# Altium footprint library Passive.PcbLib: 235 footprints (part 11 of 15)
Each footprint in its own frame and in the unit in brackets; x right, y up, seen from the top. Pads: shape width x height; smd on the part's side, far side on the other; paste and mask are expansions set on the pad; w line width, h text height; cw(c..) or ccw(c..) is an arc to the next point about the centre after c.
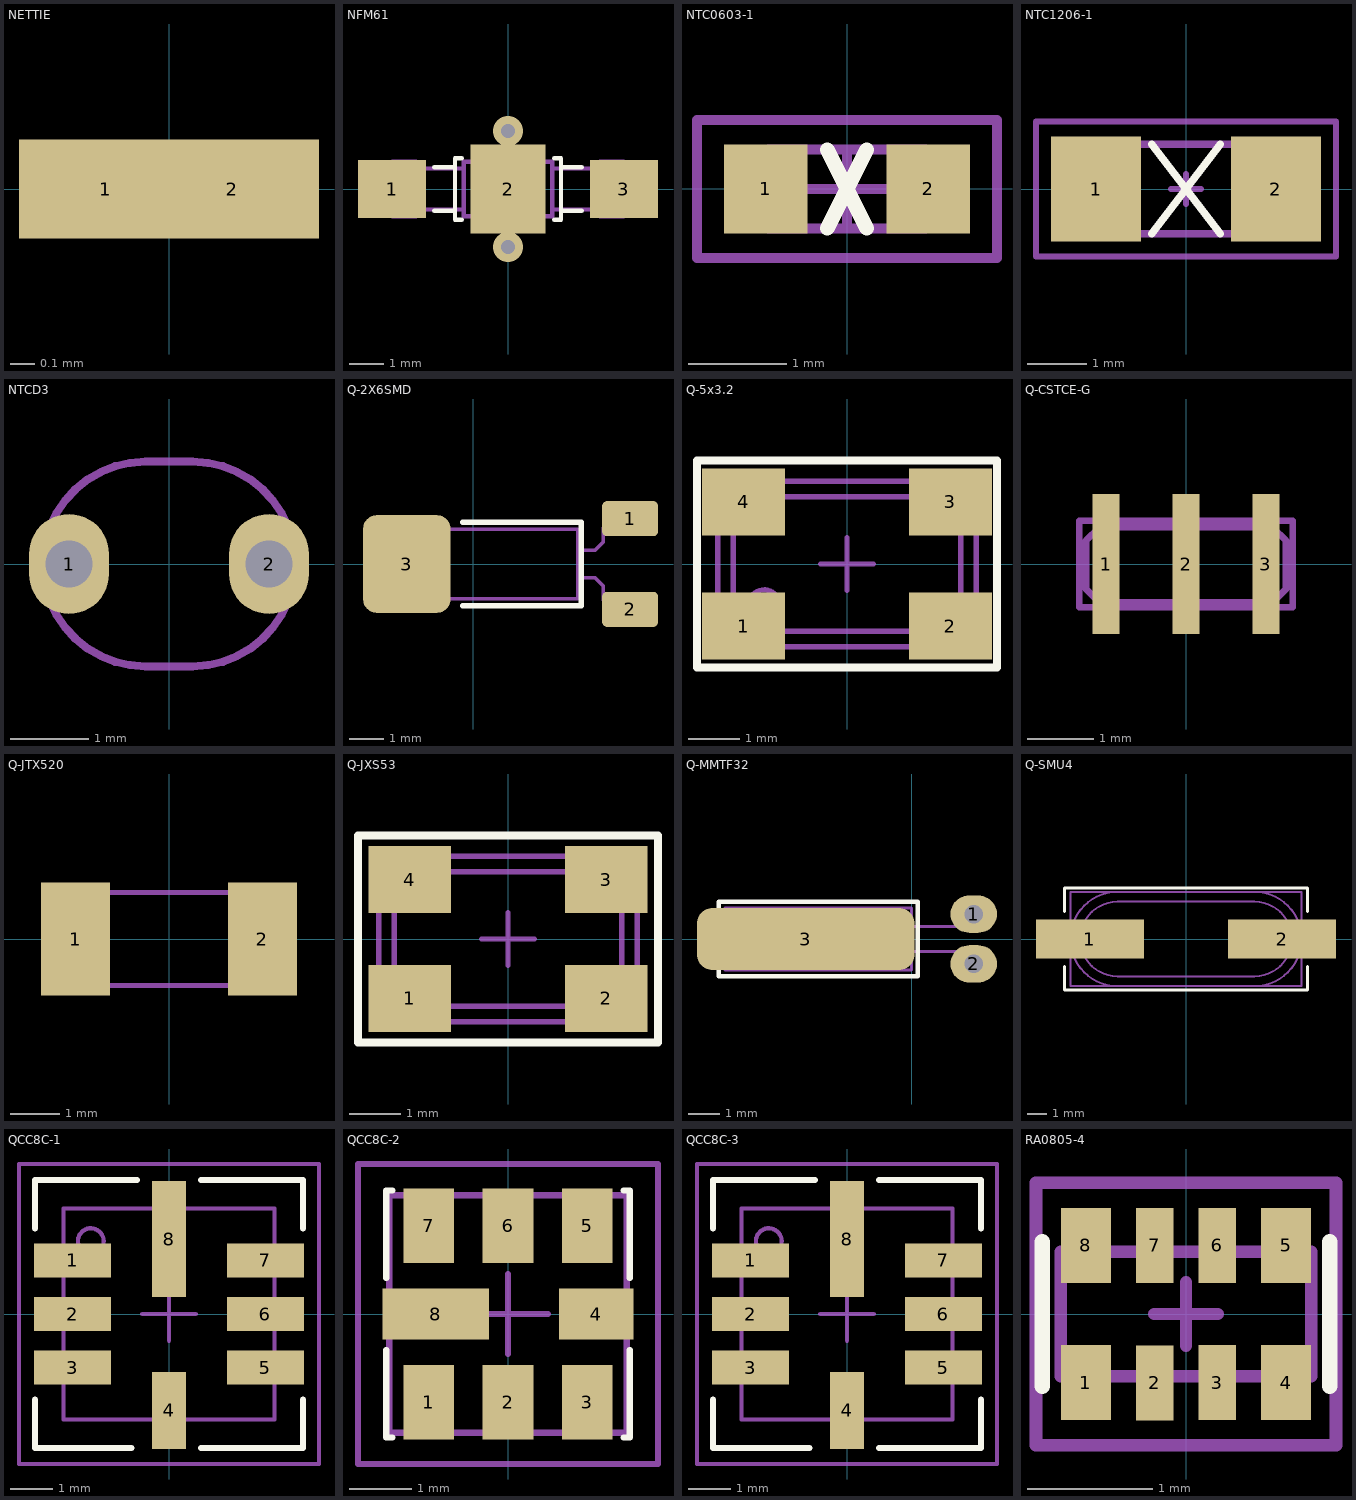
[diagram p10: the footprints below, top view; thin cyan lines are the x and y axes]

## NETTIE [mm] "Net Tie"
pads (2):
  rect 0.7x0.4 smd: 1(-0.254,0) 2(0.254,0)

## NFM61 [mm]
pads (3):
  rect 2x1.7 smd: 1(-3.4,0) 3(3.4,0)
  rect 2.2x2.6 smd: 2(0,0)
via 0,1.7 diameter 0.889 hole 0.4
via 0,-1.7 diameter 0.889 hole 0.4
Top Overlay:
  lines w0.127: -2.159,-0.635 -1.554,-0.635 ; -2.159,0.635 -1.554,0.635 ; -1.354,-0.9 -1.554,-0.9 -1.554,0.9 -1.354,0.9 ; 1.354,-0.9 1.554,-0.9 1.554,0.9 1.354,0.9 ; 1.554,-0.635 2.159,-0.635 ; 1.554,0.635 2.159,0.635
Mechanical 13:
  lines w0.127: -2.7,-0.6 -1.3,-0.6 ; -2.7,0.6 -1.3,0.6 ; 1.3,-0.6 2.7,-0.6 ; 1.3,0.6 2.7,0.6 ; -3.4,-0.8 -3.4,0.8 -2.7,0.8 -2.7,-0.8 -3.4,-0.8 ; -1.3,-0.8 -1.3,0.8 1.3,0.8 1.3,-0.8 -1.3,-0.8 ; 2.7,-0.8 2.7,0.8 3.4,0.8 3.4,-0.8 2.7,-0.8
Mechanical 15:
  lines w0.127: -0.4,0 0.4,0 ; 0,-0.4 0,0.4
3D body: height 1.6, standoff 0, extent -3.4,-0.8 3.4,0.8

## NTC0603-1 [mm] "NTC resistor 0603 0.9mm high"
height 0.9
pads (2):
  rect 0.85x0.9 smd: 1(-0.825,0) 2(0.825,0)
Top Overlay:
  lines w0.15: -0.2,-0.4 0.2,0.4 ; -0.2,0.4 0.2,-0.4
Mechanical 13:
  lines w0.1: -0.8,-0.4 0.8,-0.4 0.8,0.4 -0.8,0.4 -0.8,-0.4
Mechanical 15:
  lines w0.1: -0.4,0 0.4,0 ; 0,-0.4 0,0.4 ; -1.525,-0.7 1.525,-0.7 1.525,0.7 -1.525,0.7 -1.525,-0.7
3D body: height 0.9, standoff 0, extent -0.4,-0.4 0.4,0.4
3D body: height 0.9, standoff 0, extent -0.8,-0.4 -0.4,0.4
3D body: height 0.9, standoff 0, extent 0.4,-0.4 0.8,0.4

## NTC1206-1 [mil] "Chip resistor 1206"
height 61.02
pads (2):
  rect 60x70 smd: 1(-60,0) 2(60,0)
Top Overlay:
  lines w5: -22.99,-30 22.99,30 ; -22.99,30 22.99,-30
Mechanical 13:
  lines w5: -60,-30 60,-30 60,30 -60,30 -60,-30
Mechanical 15:
  lines w3.94: -10,0 10,0 ; 0,-10 0,10 ; -100,-45 100,-45 100,45 -100,45 -100,-45
3D body: height 47.24, standoff 0.39, extent -60,-30 60,30
3D body: height 47.64, standoff 0, extent -39.37,-30.32 39.37,30.32

## NTCD3 [mm] "NTC resistor THT R2.54mm 2.4x3mm h 8mm"
height 8
pads (2):
  oval 1.016x1.27 hole 0.6: 1(-1.27,0) 2(1.27,0)
Mechanical 13:
  lines w0.1: -0.3,-1.3 0.3,-1.3 ; -0.3,1.3 0.3,1.3
  lines w0.102: -0.3,-1.3 cw(c-0.3,0) -0.3,1.3 ; 0.3,-1.3 ccw(c0.3,0) 0.3,1.3
3D body: height 6, standoff 2, extent -1.611,-1.311 1.611,1.311
3D body: height 2, standoff -3, extent -1.479,-0.2 -1.071,0.208
3D body: height 2, standoff -3, extent 1.071,-0.2 1.479,0.208

## Q-2X6SMD [mm] "Quartz D2x6mm SMD"
height 2
pads (3):
  rrect25% 1.6x1 smd: 1(4.5,1.3) 2(4.5,-1.3)
  rrect30% 2.5x2.8 smd: 3(-1.9,0)
Top Overlay:
  lines w0.15: -0.3,-1.2 3.1,-1.2 3.1,1.2 -0.3,1.2
Mechanical 13:
  lines w0.102: 3,-0.4 3.5,-0.4 3.725,-0.625 3.725,-1.025 4,-1.3 5,-1.3 ; 3,0.4 3.5,0.4 3.725,0.625 3.725,1.025 4,1.3 5,1.3 ; -3.1,-1 -3.1,1 3,1 3,-1 -3.1,-1
3D body: height 2.09, standoff 0.1, extent 1.7,-0.998 3,0.998
3D body: height 2.1, standoff 0.1, extent -3.1,-1 1.7,1

## Q-5x3.2 [mm] "Quartz crystal 5x3.2x0.8mm"
height 0.8
pads (4):
  rect 1.6x1.3 smd: 1(-2,-1.2) 2(2,-1.2) 3(2,1.2) 4(-2,1.2)
Top Overlay:
  lines w0.15: -2.9,-2 2.9,-2 2.9,2 -2.9,2 -2.9,-2
Mechanical 13:
  circle w0.102: c-1.6,-0.8 r0.3
  lines w0.102: -2.5,-1.4 -2.5,1.4 -2.3,1.6 2.3,1.6 2.5,1.4 2.5,-1.4 2.3,-1.6 -2.3,-1.6 -2.5,-1.4 ; -2.2,-1.3 -2.2,1.3 2.2,1.3 2.2,-1.3 -2.2,-1.3
Mechanical 15:
  lines w0.102: -0.508,0 0.508,0 ; 0,-0.508 0,0.508
3D body: height 0.4, standoff 0, extent -2.5,-1.6 2.5,1.6
3D body: height 0.8, standoff 0.4, extent -2.2,-1.3 2.2,1.3
3D body: height 0.81, standoff 0.8, extent -2,-1.025 -1.5,-0.525
3D body: height 0.81, standoff 0.8, extent -1.9,-1.1 -1.3,-0.5

## Q-CSTCE-G [mm] "Quartz resonator CSTCE-G 3.2x1.3X0.8mm"
height 0.8
pads (3):
  rect 0.4x2.1 smd: 1(-1.2,0) 2(0,0) 3(1.2,0)
Mechanical 13:
  lines w0.102: -1.6,-0.65 1.6,-0.65 1.6,0.65 -1.6,0.65 -1.6,-0.65 ; -1.5,-0.375 -1.5,0.35 -1.3,0.55 1.3,0.55 1.5,0.35 1.5,-0.375 1.3,-0.575 -1.3,-0.575 -1.5,-0.375
3D body: height 0.3, standoff 0, extent -1.6,-0.65 1.6,0.65
3D body: height 0.8, standoff 0.3, extent -1.5,-0.575 1.5,0.55

## Q-JTX520 [mm] "Quartz crystal JTX520 4.8x1.9x0.8mm"
height 0.8
pads (2):
  rect 1.4x2.3 smd: 1(-1.9,0) 2(1.9,0)
Mechanical 13:
  lines w0.102: -2.4,-0.95 -2.4,0.95 2.2,0.95 2.4,0.75 2.4,-0.95 -2.4,-0.95
3D body: height 0.8, standoff 0, extent -2.4,-0.95 2.4,0.95

## Q-JXS53 [mm] "Quartz crystal 5x3.2x0.8mm"
height 0.8
pads (4):
  rect 1.6x1.3 smd: 1(-1.9,-1.15) 2(1.9,-1.15) 3(1.9,1.15) 4(-1.9,1.15)
Top Overlay:
  lines w0.15: -2.9,-2 2.9,-2 2.9,2 -2.9,2 -2.9,-2
Mechanical 13:
  lines w0.102: -2.5,-1.4 -2.5,1.4 -2.3,1.6 2.3,1.6 2.5,1.4 2.5,-1.4 2.3,-1.6 -2.3,-1.6 -2.5,-1.4 ; -2.2,-1.3 -2.2,1.3 2.2,1.3 2.2,-1.3 -2.2,-1.3
Mechanical 15:
  lines w0.102: -0.508,0 0.508,0 ; 0,-0.508 0,0.508
3D body: height 0.4, standoff 0, extent -2.5,-1.6 2.5,1.6
3D body: height 0.8, standoff 0.4, extent -2.2,-1.3 2.2,1.3
3D body: height 0.81, standoff 0.8, extent -2,-1.025 -1.5,-0.525

## Q-MMTF32 [mm] "Quartz D2x6mm tht"
pads (3):
  oval 1.5x1.2 hole 0.6: 1(2,0.8) 2(2,-0.8)
  rrect50% 7x2 smd paste-200: 3(-3.4,0)
Top Overlay:
  lines w0.15: -6.2,-1.2 -6.2,1.2 0.2,1.2 0.2,-1.2 -6.2,-1.2
Mechanical 13:
  lines w0.102: 0,-0.4 1.6,-0.4 2,-0.8 ; 0,0.4 1.6,0.4 2,0.8 ; -6,-1 -6,1 0,1 0,-1 -6,-1
3D body: height 2.09, standoff 0.1, extent -6,-1 0,0.996
3D body: height 1, standoff -3.2, extent 1.85,0.65 2.15,0.95
3D body: height 1.2, standoff 1, extent 0,0.3 2.15,0.95
3D body: height 1, standoff -3.2, extent 1.85,-0.95 2.15,-0.65
3D body: height 1.2, standoff 1, extent 0,-0.95 2.15,-0.3

## Q-SMU4 [mm] "Quartz crystal 12.5x4.8x4mm"
height 4
pads (2):
  rect 5.5x2 smd: 1(-4.9,0) 2(4.9,0)
Top Overlay:
  lines w0.15: -6.2,-1.4 -6.2,-2.6 6.2,-2.6 6.2,-1.4 ; -6.2,1.4 -6.2,2.6 6.2,2.6 6.2,1.4
Mechanical 13:
  lines w0.1: -3.5,-2.4 cw(c-3.5,0) -3.5,2.4 ; -3.5,-1.9 cw(c-3.5,0) -3.5,1.9 ; 3.5,-2.4 ccw(c3.5,0) 3.5,2.4 ; 3.5,-1.9 ccw(c3.5,0) 3.5,1.9
  lines w0.102: -3.5,-1.9 3.5,-1.9 ; -3.5,1.9 3.5,1.9 ; -5.9,-2.4 5.9,-2.4 5.9,2.4 -5.9,2.4 -5.9,-2.4
3D body: height 1, standoff 0.8, extent -5.9,-2.4 5.9,2.4
3D body: height 4, standoff 0.8, extent -5.4,-1.9 5.4,1.9
3D body: height 0.8, standoff 0, extent -5.9,-2.4 5.9,2.4

## QCC8C-1 [mil] "SAW filter 8 pin R1.27mm"
height 66.93
pads (8):
  rect 72x32 smd: 1(-90,50) 2(-90,0) 3(-90,-50) 5(90,-50) 6(90,0) 7(90,50)
  rect 32x72 smd: 4(0,-90)
  rect 32x108 smd: 8(0,70)
Top Overlay:
  lines w5.91: -125,-80 -125,-125 -35,-125 ; -125,80 -125,125 -30,125 ; 30,-125 125,-125 125,-80 ; 30,125 125,125 125,80
Mechanical 13:
  circle w4: c-73,68 r12
  lines w4: -98.43,-57.87 -98.43,-98.43 -7.87,-98.43 ; -98.43,-42.13 -98.43,-7.87 ; -98.43,7.87 -98.43,43.13 ; -98.43,58.87 -98.43,98.43 -7.87,98.43 ; -98.18,-57.87 ccw(c-98.18,-50) -98.18,-42.13 ; -98.18,-7.87 ccw(c-98.18,0) -98.18,7.87 ; -98.18,43.13 ccw(c-98.18,51) -98.18,58.87 ; -7.87,-98.18 cw(c0,-98.18) 7.87,-98.18 ; -7.87,98.18 ccw(c0,98.18) 7.87,98.18 ; 7.87,-98.43 98.43,-98.43 98.43,-57.87 ; 7.87,98.43 98.43,98.43 98.43,58.87 ; 98.18,-57.87 cw(c98.18,-50) 98.18,-42.13 ; 98.18,-7.87 cw(c98.18,0) 98.18,7.87 ; 98.18,43.13 cw(c98.18,51) 98.18,58.87 ; 98.43,-42.13 98.43,-7.87 ; 98.43,7.87 98.43,43.13
Mechanical 15:
  lines w4: -25,0 25,0 ; 0,-25 0,25 ; -140,-140 140,-140 140,140 -140,140 -140,-105 -140,-140
3D body: height 66.93, standoff 53.15, extent -90.55,-90.55 90.55,90.55
3D body: height 53.15, standoff 0, extent -7.87,-98.43 7.87,-90.4
3D body: height 53.15, standoff 0, extent -98.34,-57.88 -90.31,-42.13
3D body: height 53.15, standoff 0, extent -98.43,-7.87 -90.4,7.87
3D body: height 53.15, standoff 0, extent -98.43,43.13 -90.4,58.87
3D body: height 53.15, standoff 0, extent -7.88,90.15 7.87,98.18
3D body: height 53.15, standoff 0, extent 90.4,43.13 98.43,58.87
3D body: height 53.15, standoff 0, extent 90.4,-7.87 98.43,7.87
3D body: height 53.15, standoff 0, extent 90.4,-57.72 98.43,-41.97
3D body: height 53.15, standoff 0, extent -98.43,-98.43 98.43,98.43
3D body: height 67.32, standoff 66.93, extent -85,56 -61,80

## QCC8C-2 [mm] "SAW filter 8 pin R1.27mm"
height 1.1
pads (8):
  rect 0.81x1.19 smd: 1(-1.27,-1.41) 2(0,-1.41) 3(1.27,-1.41) 5(1.27,1.41) 6(0,1.41) 7(-1.27,1.41)
  rect 1.19x0.81 smd: 4(1.41,0)
  rect 1.7x0.81 smd: 8(-1.155,0)
Top Overlay:
  lines w0.102: -1.95,-0.575 -1.95,-1.975 ; -1.95,0.575 -1.95,1.975 ; -1.85,-1.975 -1.95,-1.975 ; -1.85,1.975 -1.95,1.975 ; 1.85,-1.975 1.95,-1.975 ; 1.85,1.975 1.95,1.975 ; 1.95,-0.575 1.95,-1.975 ; 1.95,0.575 1.95,1.975 ; -1.95,-1.975 -1.95,-1.975 ; -1.95,1.975 -1.95,1.975 ; 1.95,-1.975 1.95,-1.975 ; 1.95,1.975 1.95,1.975
Mechanical 13:
  lines w0.1: -1.9,-0.2 ccw(c-1.9,0) -1.9,0.2 ; -1.475,-1.9 cw(c-1.275,-1.9) -1.075,-1.9 ; -1.475,1.9 ccw(c-1.275,1.9) -1.075,1.9 ; -0.2,-1.9 cw(c0,-1.9) 0.2,-1.9 ; -0.2,1.9 ccw(c0,1.9) 0.2,1.9 ; 1.075,-1.9 cw(c1.275,-1.9) 1.475,-1.9 ; 1.075,1.9 ccw(c1.275,1.9) 1.475,1.9 ; 1.9,-0.2 cw(c1.9,0) 1.9,0.2
  lines w0.102: -1.9,-0.204 -1.9,-1.9 -1.475,-1.9 ; -1.9,0.2 -1.9,1.9 -1.479,1.9 ; -1.075,1.9 -0.204,1.9 ; -1.071,-1.9 -0.2,-1.9 ; -1.05,-1.3 cw(c-1.3,-1.3) -1.05,-1.297 ; 0.2,1.9 1.071,1.9 ; 0.204,-1.9 1.075,-1.9 ; 1.475,1.9 1.9,1.9 1.9,0.204 ; 1.479,-1.9 1.9,-1.9 1.9,-0.2
Mechanical 15:
  lines w0.102: -0.635,0 0.635,0 ; 0,-0.635 0,0.635 ; -2.4,-2.4 -2.4,2.4 2.4,2.4 2.4,-2.4 -2.4,-2.4
3D body: height 1, standoff 0, extent -1.905,-0.205 -1.7,0.199
3D body: height 1, standoff 0, extent -1.475,1.7 -1.071,1.905
3D body: height 1, standoff 0, extent -0.199,1.68 0.205,1.885
3D body: height 1, standoff 0, extent 1.071,1.68 1.475,1.885
3D body: height 1, standoff 0, extent 1.7,-0.2 1.905,0.204
3D body: height 1, standoff 0, extent 1.075,-1.905 1.479,-1.7
3D body: height 1, standoff 0, extent -0.2,-1.905 0.204,-1.7
3D body: height 1.11, standoff 1.1, extent -1.549,-1.549 -1.05,-1.041
3D body: height 1, standoff 0, extent -1.475,-1.905 -1.071,-1.7
3D body: height 1, standoff 0, extent -1.9,-1.9 1.9,1.9
3D body: height 1.1, standoff 1, extent -1.7,-1.7 1.7,1.7

## QCC8C-3 [mil] "SAW filter 8 pin R1.27mm"
height 66.93
pads (8):
  rect 72x32 smd: 1(-90,50) 2(-90,0) 3(-90,-50) 5(90,-50) 6(90,0) 7(90,50)
  rect 32x72 smd: 4(0,-90)
  rect 32x108 smd: 8(0,70)
Top Overlay:
  lines w5.91: -125,-80 -125,-125 -35,-125 ; -125,80 -125,125 -30,125 ; 30,-125 125,-125 125,-80 ; 30,125 125,125 125,80
Mechanical 13:
  circle w4: c-73,68 r12
  lines w4: -98.43,-57.87 -98.43,-98.43 -7.87,-98.43 ; -98.43,-42.13 -98.43,-7.87 ; -98.43,7.87 -98.43,43.13 ; -98.43,58.87 -98.43,98.43 -7.87,98.43 ; -98.18,-57.87 ccw(c-98.18,-50) -98.18,-42.13 ; -98.18,-7.87 ccw(c-98.18,0) -98.18,7.87 ; -98.18,43.13 ccw(c-98.18,51) -98.18,58.87 ; -7.87,-98.18 cw(c0,-98.18) 7.87,-98.18 ; -7.87,98.18 ccw(c0,98.18) 7.87,98.18 ; 7.87,-98.43 98.43,-98.43 98.43,-57.87 ; 7.87,98.43 98.43,98.43 98.43,58.87 ; 98.18,-57.87 cw(c98.18,-50) 98.18,-42.13 ; 98.18,-7.87 cw(c98.18,0) 98.18,7.87 ; 98.18,43.13 cw(c98.18,51) 98.18,58.87 ; 98.43,-42.13 98.43,-7.87 ; 98.43,7.87 98.43,43.13
Mechanical 15:
  lines w4: -25,0 25,0 ; 0,-25 0,25 ; -140,-140 140,-140 140,140 -140,140 -140,-105 -140,-140
3D body: height 66.93, standoff 53.15, extent -90.55,-90.55 90.55,90.55
3D body: height 53.15, standoff 0, extent -7.87,-98.43 7.87,-90.4
3D body: height 53.15, standoff 0, extent -98.34,-57.88 -90.31,-42.13
3D body: height 53.15, standoff 0, extent -98.43,-7.87 -90.4,7.87
3D body: height 53.15, standoff 0, extent -98.43,43.13 -90.4,58.87
3D body: height 53.15, standoff 0, extent -7.88,90.15 7.87,98.18
3D body: height 53.15, standoff 0, extent 90.4,43.13 98.43,58.87
3D body: height 53.15, standoff 0, extent 90.4,-7.87 98.43,7.87
3D body: height 53.15, standoff 0, extent 90.4,-57.72 98.43,-41.97
3D body: height 53.15, standoff 0, extent -98.43,-98.43 98.43,98.43
3D body: height 53.54, standoff 53.15, extent -85,56 -61,80

## RA0805-4 [mm] "Resistor array 4x Single R; 0805 8 pin R0.5mm"
height 0.5
pads (8):
  rect 0.4x0.6 smd: 1(-0.8,-0.55) 4(0.8,-0.55) 5(0.8,0.55) 8(-0.8,0.55)
  rect 0.3x0.6 smd: 2(-0.25,-0.55) 3(0.25,-0.55) 6(0.25,0.55) 7(-0.25,0.55)
Top Overlay:
  lines w0.127: -1.15,-0.575 -1.15,0.575 ; 1.15,-0.575 1.15,0.575
Mechanical 13:
  lines w0.1: -1,-0.5 -1,0.5 1,0.5 1,-0.5 -1,-0.5
Mechanical 15:
  lines w0.1: -0.254,0 0.254,0 ; 0,-0.254 0,0.254
  lines w0.102: -1.2,-1.05 1.2,-1.05 1.2,1.05 -1.2,1.05 -1.2,-1.05
3D body: height 0.45, standoff 0, extent -1,-0.5 1,0.5
3D body: height 0.46, standoff 0.45, extent -1,-0.35 1,0.35
3D body: height 0.46, standoff 0, extent -0.975,-0.525 -0.625,-0.35
3D body: height 0.46, standoff 0, extent -0.975,0.35 -0.625,0.525
3D body: height 0.46, standoff 0, extent 0.625,0.35 0.975,0.525
3D body: height 0.46, standoff 0, extent 0.625,-0.525 0.975,-0.35
3D body: height 0.46, standoff 0, extent -0.375,-0.525 -0.125,-0.35
3D body: height 0.46, standoff 0, extent 0.125,-0.525 0.375,-0.35
3D body: height 0.46, standoff 0, extent -0.375,0.35 -0.125,0.525
3D body: height 0.46, standoff 0, extent 0.125,0.35 0.375,0.525